# Altium footprint library ADI.PcbLib: 6 footprints (part 2 of 2)
Each footprint in its own frame and in the unit in brackets; x right, y up, seen from the top. Pads: shape width x height; smd on the part's side, far side on the other; paste and mask are expansions set on the pad; w line width, h text height; cw(c..) or ccw(c..) is an arc to the next point about the centre after c.
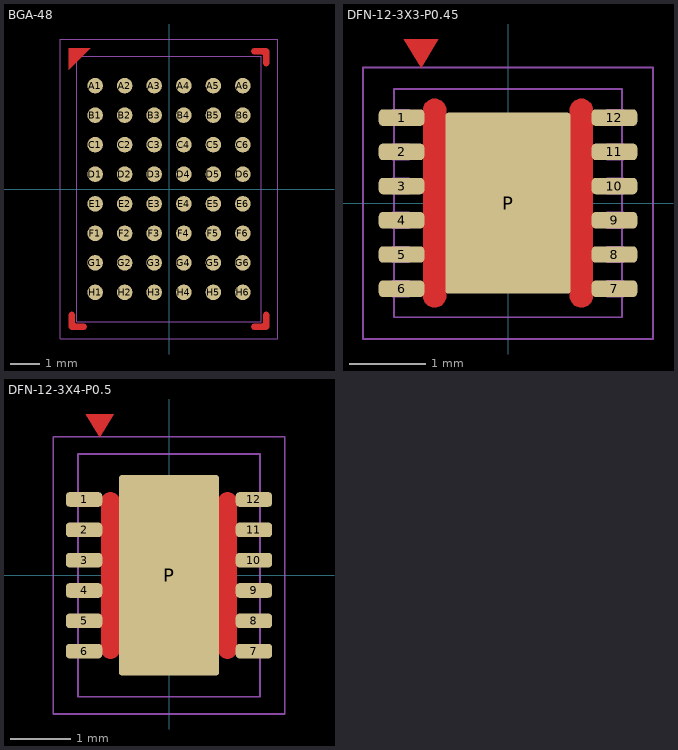
[diagram p1: the footprints below, top view; thin cyan lines are the x and y axes]

## BGA-48 [mm]
pads (48):
  round 0.525 smd mask+0.051: A1(-2.5,3.5) A2(-1.5,3.5) A3(-0.5,3.5) A4(0.5,3.5) A5(1.5,3.5) A6(2.5,3.5) B1(-2.5,2.5) B2(-1.5,2.5) B3(-0.5,2.5) B4(0.5,2.5) B5(1.5,2.5) B6(2.5,2.5) C1(-2.5,1.5) C2(-1.5,1.5) C3(-0.5,1.5) C4(0.5,1.5) C5(1.5,1.5) C6(2.5,1.5) D1(-2.5,0.5) D2(-1.5,0.5) D3(-0.5,0.5) D4(0.5,0.5) D5(1.5,0.5) D6(2.5,0.5) E1(-2.5,-0.5) E2(-1.5,-0.5) E3(-0.5,-0.5) E4(0.5,-0.5) E5(1.5,-0.5) E6(2.5,-0.5) F1(-2.5,-1.5) F2(-1.5,-1.5) F3(-0.5,-1.5) F4(0.5,-1.5) F5(1.5,-1.5) F6(2.5,-1.5) G1(-2.5,-2.5) G2(-1.5,-2.5) G3(-0.5,-2.5) G4(0.5,-2.5) G5(1.5,-2.5) G6(2.5,-2.5) H1(-2.5,-3.5) H2(-1.5,-3.5) H3(-0.5,-3.5) H4(0.5,-3.5) H5(1.5,-3.5) H6(2.5,-3.5)
Top Layer:
  region: -3.391,4.766 -3.391,4.041 -2.666,4.766
  region: 2.883,-4.563 2.863,-4.563 2.825,-4.578 2.797,-4.607 2.781,-4.644 2.781,-4.664 2.781,-4.684 2.797,-4.722 2.825,-4.75 2.863,-4.766 2.883,-4.766 3.289,-4.766 3.309,-4.766 3.347,-4.75 3.375,-4.722 3.391,-4.684 3.391,-4.664 3.391,-4.258 3.391,-4.238 3.375,-4.2 3.347,-4.172 3.309,-4.156 3.289,-4.156 3.269,-4.156 3.232,-4.172 3.203,-4.2 3.188,-4.238 3.188,-4.258 3.188,-4.512 3.187,-4.522 3.179,-4.54 3.165,-4.554 3.147,-4.562 3.137,-4.563
  region: -3.188,-4.258 -3.188,-4.238 -3.203,-4.2 -3.232,-4.172 -3.269,-4.156 -3.289,-4.156 -3.309,-4.156 -3.347,-4.172 -3.375,-4.2 -3.391,-4.238 -3.391,-4.258 -3.391,-4.664 -3.391,-4.684 -3.375,-4.722 -3.347,-4.75 -3.309,-4.766 -3.289,-4.766 -2.883,-4.766 -2.863,-4.766 -2.825,-4.75 -2.797,-4.722 -2.781,-4.684 -2.781,-4.664 -2.781,-4.644 -2.797,-4.607 -2.825,-4.578 -2.863,-4.563 -2.883,-4.563 -3.137,-4.563 -3.147,-4.562 -3.165,-4.554 -3.179,-4.54 -3.187,-4.522 -3.188,-4.512
  region: 3.188,4.258 3.188,4.238 3.203,4.2 3.232,4.172 3.269,4.156 3.289,4.156 3.309,4.156 3.347,4.172 3.375,4.2 3.391,4.238 3.391,4.258 3.391,4.664 3.391,4.684 3.375,4.722 3.347,4.75 3.309,4.766 3.289,4.766 2.883,4.766 2.863,4.766 2.825,4.75 2.797,4.722 2.781,4.684 2.781,4.664 2.781,4.644 2.797,4.607 2.825,4.578 2.863,4.563 2.883,4.563 3.137,4.563 3.147,4.562 3.165,4.554 3.179,4.54 3.187,4.522 3.188,4.512
Top Component Outline:
  lines w0.025: -3.683,-5.08 3.683,-5.08 3.683,5.08 -3.683,5.08 -3.683,-5.08
Top 3D Body (Mech16):
  lines w0.025: -3.125,-4.5 -3.125,4.5 3.125,4.5 3.125,-4.5 -3.125,-4.5
3D body: height 0.55, standoff -0.05, extent -2.798,3.2 -2.202,3.8
3D body: height 0.55, standoff -0.05, extent -1.798,3.2 -1.202,3.8
3D body: height 0.55, standoff -0.05, extent -0.798,3.2 -0.202,3.8
3D body: height 0.55, standoff -0.05, extent 0.202,3.2 0.798,3.8
3D body: height 0.55, standoff -0.05, extent 1.202,3.2 1.798,3.8
3D body: height 0.55, standoff -0.05, extent 2.202,3.2 2.798,3.8
3D body: height 0.55, standoff -0.05, extent -2.798,2.2 -2.202,2.8
3D body: height 0.55, standoff -0.05, extent -1.798,2.2 -1.202,2.8
3D body: height 0.55, standoff -0.05, extent -0.798,2.2 -0.202,2.8
3D body: height 0.55, standoff -0.05, extent 0.202,2.2 0.798,2.8
3D body: height 0.55, standoff -0.05, extent 1.202,2.2 1.798,2.8
3D body: height 0.55, standoff -0.05, extent 2.202,2.2 2.798,2.8
3D body: height 0.55, standoff -0.05, extent -2.798,1.2 -2.202,1.8
3D body: height 0.55, standoff -0.05, extent -1.798,1.2 -1.202,1.8
3D body: height 0.55, standoff -0.05, extent -0.798,1.2 -0.202,1.8
3D body: height 0.55, standoff -0.05, extent 0.202,1.2 0.798,1.8
3D body: height 0.55, standoff -0.05, extent 1.202,1.2 1.798,1.8
3D body: height 0.55, standoff -0.05, extent 2.202,1.2 2.798,1.8
3D body: height 0.55, standoff -0.05, extent -2.798,0.2 -2.202,0.8
3D body: height 0.55, standoff -0.05, extent -1.798,0.2 -1.202,0.8
3D body: height 0.55, standoff -0.05, extent -0.798,0.2 -0.202,0.8
3D body: height 0.55, standoff -0.05, extent 0.202,0.2 0.798,0.8
3D body: height 0.55, standoff -0.05, extent 1.202,0.2 1.798,0.8
3D body: height 0.55, standoff -0.05, extent 2.202,0.2 2.798,0.8
3D body: height 0.55, standoff -0.05, extent -2.798,-0.8 -2.202,-0.2
3D body: height 0.55, standoff -0.05, extent -1.798,-0.8 -1.202,-0.2
3D body: height 0.55, standoff -0.05, extent -0.798,-0.8 -0.202,-0.2
3D body: height 0.55, standoff -0.05, extent 0.202,-0.8 0.798,-0.2
3D body: height 0.55, standoff -0.05, extent 1.202,-0.8 1.798,-0.2
3D body: height 0.55, standoff -0.05, extent 2.202,-0.8 2.798,-0.2
3D body: height 0.55, standoff -0.05, extent -2.798,-1.8 -2.202,-1.2
3D body: height 0.55, standoff -0.05, extent -1.798,-1.8 -1.202,-1.2
3D body: height 0.55, standoff -0.05, extent -0.798,-1.8 -0.202,-1.2
3D body: height 0.55, standoff -0.05, extent 0.202,-1.8 0.798,-1.2
3D body: height 0.55, standoff -0.05, extent 1.202,-1.8 1.798,-1.2
3D body: height 0.55, standoff -0.05, extent 2.202,-1.8 2.798,-1.2
3D body: height 0.55, standoff -0.05, extent -2.798,-2.8 -2.202,-2.2
3D body: height 0.55, standoff -0.05, extent -1.798,-2.8 -1.202,-2.2
3D body: height 0.55, standoff -0.05, extent -0.798,-2.8 -0.202,-2.2
3D body: height 0.55, standoff -0.05, extent 0.202,-2.8 0.798,-2.2
3D body: height 0.55, standoff -0.05, extent 1.202,-2.8 1.798,-2.2
3D body: height 0.55, standoff -0.05, extent 2.202,-2.8 2.798,-2.2
3D body: height 0.55, standoff -0.05, extent -2.798,-3.8 -2.202,-3.2
3D body: height 0.55, standoff -0.05, extent -1.798,-3.8 -1.202,-3.2
3D body: height 0.55, standoff -0.05, extent -0.798,-3.8 -0.202,-3.2
3D body: height 0.55, standoff -0.05, extent 0.202,-3.8 0.798,-3.2
3D body: height 0.55, standoff -0.05, extent 1.202,-3.8 1.798,-3.2
3D body: height 0.55, standoff -0.05, extent 2.202,-3.8 2.798,-3.2
3D body: height 3.3, standoff 0.5, extent -3.125,-4.5 3.125,4.5

## DFN-12-3X3-P0.45 [mm]
height 0.75
pads (13):
  rrect50% 0.6x0.216 smd mask+0.051: 1(-1.4,1.125) 2(-1.4,0.675) 3(-1.4,0.225) 4(-1.4,-0.225) 5(-1.4,-0.675) 6(-1.4,-1.125) 7(1.4,-1.125) 8(1.4,-0.675) 9(1.4,-0.225) 10(1.4,0.225) 11(1.4,0.675) 12(1.4,1.125)
  rrect5% 1.65x2.38 smd paste-5.08 mask+0.051: P(0,0)
Top Layer:
  region: -1.143,1.778 -0.914,2.159 -1.372,2.159
  pour cut-out: 0.965,1.372 0.935,1.372 0.879,1.348 0.836,1.306 0.813,1.25 0.813,1.219 0.813,-1.219 0.813,-1.25 0.836,-1.306 0.879,-1.348 0.935,-1.372 0.965,-1.372 0.996,-1.372 1.052,-1.348 1.094,-1.306 1.118,-1.25 1.118,-1.219 1.118,1.219 1.118,1.25 1.094,1.306 1.052,1.348 0.996,1.372
  pour cut-out: -0.965,-1.372 -0.935,-1.372 -0.879,-1.348 -0.836,-1.306 -0.813,-1.25 -0.813,-1.219 -0.813,1.219 -0.813,1.25 -0.836,1.306 -0.879,1.348 -0.935,1.372 -0.965,1.372 -0.996,1.372 -1.052,1.348 -1.094,1.306 -1.118,1.25 -1.118,1.219 -1.118,-1.219 -1.118,-1.25 -1.094,-1.306 -1.052,-1.348 -0.996,-1.372
Top Paste:
  rectangle: -0.762,0.233 0.762,1.118
  region: 0.762,-0.254 -0.762,-0.254 -0.762,-1.118 0.762,-1.118
Top Component Outline:
  lines w0.025: -1.905,-1.786 -1.905,1.786 1.905,1.786 1.905,-1.786 -1.905,-1.786
Top 3D Body (Mech16):
  lines w0.025: -1.52,-1.225 -1.3,-1.225 -1.3,-1.025 -1.52,-1.025 -1.52,-1.225 ; -1.52,-0.775 -1.52,-0.575 -1.3,-0.575 -1.3,-0.775 -1.52,-0.775 ; -1.52,-0.325 -1.3,-0.325 -1.3,-0.125 -1.52,-0.125 -1.52,-0.325 ; -1.52,0.125 -1.52,0.325 -1.3,0.325 -1.3,0.125 -1.52,0.125 ; -1.52,0.575 -1.52,0.775 -1.3,0.775 -1.3,0.575 -1.52,0.575 ; -1.52,1.025 -1.3,1.025 -1.3,1.225 -1.52,1.225 -1.52,1.025 ; -1.5,-1.5 1.5,-1.5 1.5,1.5 -1.5,1.5 -1.5,-1.5 ; 1.3,-1.225 1.3,-1.025 1.52,-1.025 1.52,-1.225 1.3,-1.225 ; 1.3,-0.775 1.52,-0.775 1.52,-0.575 1.3,-0.575 1.3,-0.775 ; 1.3,-0.325 1.3,-0.125 1.52,-0.125 1.52,-0.325 1.3,-0.325 ; 1.3,0.125 1.3,0.325 1.52,0.325 1.52,0.125 1.3,0.125 ; 1.3,0.575 1.52,0.575 1.52,0.775 1.3,0.775 1.3,0.575 ; 1.3,1.025 1.3,1.225 1.52,1.225 1.52,1.025 1.3,1.025
3D body: height 0.91, standoff 0.89, extent -1.167,0.864 -0.863,1.168
3D body: height 0.2, standoff 0, extent 1.295,0.575 1.52,0.775
3D body: height 0.2, standoff 0, extent 1.295,0.125 1.52,0.325
3D body: height 0.2, standoff 0, extent 1.295,1.025 1.52,1.225
3D body: height 0.2, standoff 0, extent 1.295,-0.775 1.52,-0.575
3D body: height 0.2, standoff 0, extent 1.295,-0.325 1.52,-0.125
3D body: height 0.2, standoff 0, extent -1.52,0.575 -1.295,0.775
3D body: height 0.2, standoff 0, extent -1.52,1.025 -1.295,1.225
3D body: height 0.2, standoff 0, extent -1.52,-0.775 -1.295,-0.575
3D body: height 0.2, standoff 0, extent -1.52,0.125 -1.295,0.325
3D body: height 0.2, standoff 0, extent -1.52,-0.325 -1.295,-0.125
3D body: height 0.2, standoff 0, extent -1.52,-1.225 -1.295,-1.025
3D body: height 0.2, standoff 0, extent 1.295,-1.225 1.52,-1.025
3D body: height 0.9, standoff 0.05, extent -1.5,-1.5 1.5,1.5

## DFN-12-3X4-P0.5 [mm]
height 0.75
pads (13):
  rrect50% 0.6x0.24 smd mask+0.051: 1(-1.4,1.25) 2(-1.4,0.75) 3(-1.4,0.25) 4(-1.4,-0.25) 5(-1.4,-0.75) 6(-1.4,-1.25) 7(1.4,-1.25) 8(1.4,-0.75) 9(1.4,-0.25) 10(1.4,0.25) 11(1.4,0.75) 12(1.4,1.25)
  rrect5% 1.65x3.3 smd paste-5.08 mask+0.051: P(0,0)
Top Layer:
  pour cut-out: -0.965,-1.372 -0.935,-1.372 -0.879,-1.348 -0.836,-1.306 -0.813,-1.25 -0.813,-1.219 -0.813,1.219 -0.813,1.25 -0.836,1.306 -0.879,1.348 -0.935,1.372 -0.965,1.372 -0.996,1.372 -1.052,1.348 -1.094,1.306 -1.118,1.25 -1.118,1.219 -1.118,-1.219 -1.118,-1.25 -1.094,-1.306 -1.052,-1.348 -0.996,-1.372
  pour cut-out: 0.965,1.372 0.935,1.372 0.879,1.348 0.836,1.306 0.813,1.25 0.813,1.219 0.813,-1.219 0.813,-1.25 0.836,-1.306 0.879,-1.348 0.935,-1.372 0.965,-1.372 0.996,-1.372 1.052,-1.348 1.094,-1.306 1.118,-1.25 1.118,-1.219 1.118,1.219 1.118,1.25 1.094,1.306 1.052,1.348 0.996,1.372
  region: -1.143,2.278 -0.914,2.659 -1.372,2.659
Top Paste:
  region: 0.762,0.381 -0.762,0.381 -0.762,-0.381 0.762,-0.381
  region: 0.762,-0.813 -0.762,-0.813 -0.762,-1.575 0.762,-1.575
  rectangle: -0.762,0.813 0.762,1.575
Top Component Outline:
  lines w0.025: -1.905,-2.286 1.905,-2.286 1.905,2.286 -1.905,2.286 -1.905,-2.286
Top 3D Body (Mech16):
  lines w0.025: -1.52,-1.35 -1.52,-1.15 -1.3,-1.15 -1.3,-1.35 -1.52,-1.35 ; -1.52,-0.85 -1.3,-0.85 -1.3,-0.65 -1.52,-0.65 -1.52,-0.85 ; -1.52,-0.35 -1.52,-0.15 -1.3,-0.15 -1.3,-0.35 -1.52,-0.35 ; -1.52,0.15 -1.3,0.15 -1.3,0.35 -1.52,0.35 -1.52,0.15 ; -1.52,0.65 -1.3,0.65 -1.3,0.85 -1.52,0.85 -1.52,0.65 ; -1.52,1.15 -1.52,1.35 -1.3,1.35 -1.3,1.15 -1.52,1.15 ; -1.5,-2 -1.5,2 1.5,2 1.5,-2 -1.5,-2 ; 1.3,-1.35 1.52,-1.35 1.52,-1.15 1.3,-1.15 1.3,-1.35 ; 1.3,-0.85 1.3,-0.65 1.52,-0.65 1.52,-0.85 1.3,-0.85 ; 1.3,-0.35 1.52,-0.35 1.52,-0.15 1.3,-0.15 1.3,-0.35 ; 1.3,0.15 1.52,0.15 1.52,0.35 1.3,0.35 1.3,0.15 ; 1.3,0.65 1.3,0.85 1.52,0.85 1.52,0.65 1.3,0.65 ; 1.3,1.15 1.52,1.15 1.52,1.35 1.3,1.35 1.3,1.15
3D body: height 0.9, standoff 0.05, extent -1.5,-2 1.5,2
3D body: height 0.2, standoff 0, extent 1.295,-1.35 1.52,-1.15
3D body: height 0.2, standoff 0, extent -1.52,-1.35 -1.295,-1.15
3D body: height 0.2, standoff 0, extent -1.52,-0.35 -1.295,-0.15
3D body: height 0.2, standoff 0, extent -1.52,0.15 -1.295,0.35
3D body: height 0.2, standoff 0, extent -1.52,-0.85 -1.295,-0.65
3D body: height 0.2, standoff 0, extent -1.52,1.15 -1.295,1.35
3D body: height 0.2, standoff 0, extent -1.52,0.65 -1.295,0.85
3D body: height 0.2, standoff 0, extent 1.295,-0.35 1.52,-0.15
3D body: height 0.2, standoff 0, extent 1.295,-0.85 1.52,-0.65
3D body: height 0.2, standoff 0, extent 1.295,1.15 1.52,1.35
3D body: height 0.2, standoff 0, extent 1.295,0.15 1.52,0.35
3D body: height 0.2, standoff 0, extent 1.295,0.65 1.52,0.85
3D body: height 0.91, standoff 0.89, extent -1.167,1.364 -0.863,1.668